# EAGLE library part RN16-ISOL (library ads4)
16-pin 8-Resistor Network
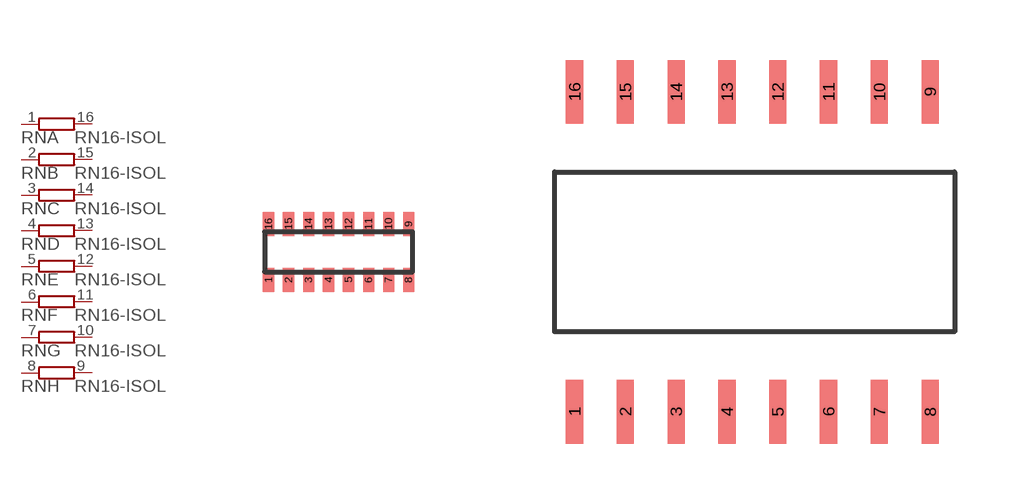
[diagram p8: symbol with the pads of EXB2HV; footprints EXB2HV, CTS766-16]

Designator prefix RN; gates A=RNV B=RNV C=RNV D=RNV E=RNV F=RNV G=RNV H=RNV

## RN16-ISOLEXB  [EXB2HV]
1  A:1  pas
2  B:1  pas
3  C:1  pas
4  D:1  pas
5  E:1  pas
6  F:1  pas
7  G:1  pas
8  H:1  pas
9  H:2  pas
10  G:2  pas
11  F:2  pas
12  E:2  pas
13  D:2  pas
14  C:2  pas
15  B:2  pas
16  A:2  pas

## RN16-ISOLCTS  [CTS766-16]
Pads as for EXB2HV

## Footprint EXB2HV (pad centres in mm)
Panasonic EXB2HV SMT resistor network 16-pin 8-resistor isolated
smd 0.279 x 0.61: 1 -1.7,-0.7; 2 -1.2,-0.7; 3 -0.7,-0.7; 4 -0.2,-0.7; 5 0.3,-0.7; 6 0.8,-0.7; 7 1.3,-0.7; 8 1.8,-0.7; 9 1.8,0.7; 10 1.3,0.7; 11 0.8,0.7; 12 0.3,0.7; 13 -0.2,0.7; 14 -0.7,0.7; 15 -1.2,0.7; 16 -1.7,0.7

## Footprint CTS766-16 (pad centres in mm)
CTS 766 Series Resistor Network 16-pins 8-resistors
smd 0.43 x 1.6: 1 -4.5,-4; 2 -3.23,-4; 3 -1.96,-4; 4 -0.69,-4; 5 0.58,-4; 6 1.85,-4; 7 3.12,-4; 8 4.39,-4; 9 4.39,4; 10 3.12,4; 11 1.85,4; 12 0.58,4; 13 -0.69,4; 14 -1.96,4; 15 -3.23,4; 16 -4.5,4